# EAGLE library part DRV8834 (library Jordi)
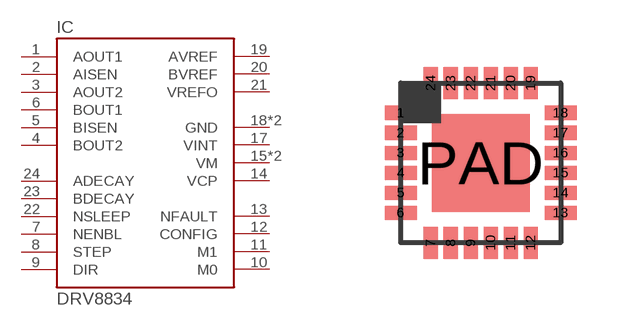
[diagram p19: symbol with the pads of QFN-24; footprint QFN-24]

Designator prefix IC

## DRV8834RGE  [QFN-24]
1  AOUT1  out
2  AISEN
3  AOUT2  out
4  BOUT2  out
5  BISEN
6  BOUT1  out
7  NENBL  in
8  STEP  in
9  DIR  in
10  M0  in
11  M1  in
12  CONFIG  in
13  NFAULT  out
14  VCP  pwr
15  VM  pwr
16  VM  pwr
17  VINT  pwr
18  GND  pwr
19  AVREF  in
20  BVREF  in
21  VREFO  out
22  NSLEEP  in
23  BDECAY  in
24  ADECAY  in
PAD  GND  pwr

## Footprint QFN-24 (pad centres in mm)
smd 0.8 x 0.35: 1 -2,1.25; 2 -2,0.75; 3 -2,0.25; 4 -2,-0.25; 5 -2,-0.75; 6 -2,-1.25; 13 2,-1.25; 14 2,-0.75; 15 2,-0.25; 16 2,0.25; 17 2,0.75; 18 2,1.25
smd 0.35 x 0.8: 7 -1.25,-2; 8 -0.75,-2; 9 -0.25,-2; 10 0.25,-2; 11 0.75,-2; 12 1.25,-2; 19 1.25,2; 20 0.75,2; 21 0.25,2; 22 -0.25,2; 23 -0.75,2; 24 -1.25,2
smd 2.45 x 2.45: PAD 0,0